# EAGLE library part TLC083 (library op-amp)
BiMOS OP-AMP Single Supply
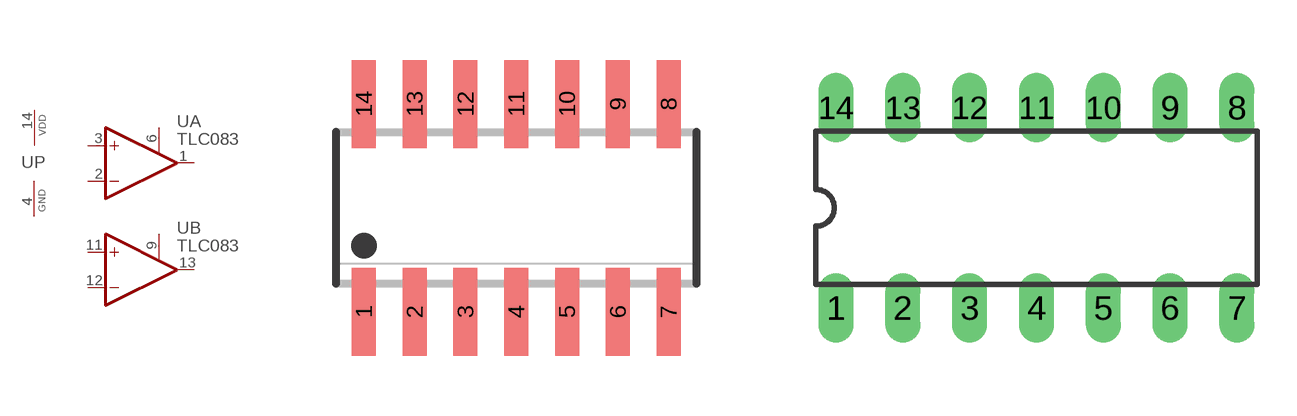
[diagram p13: symbol with the pads of SO14; footprints SO14, DIL14]

Designator prefix U; gates A=OPAMP_SHDN B=OPAMP_SHDN P=PWRN_VDDGND

## TLC083D  [SO14]
1  A:OUT  out
2  A:-IN  in
3  A:+IN  in
4  P:GND  pwr
6  A:SHDN  pas
9  B:SHDN  pas
11  B:+IN  in
12  B:-IN  in
13  B:OUT  out
14  P:VDD  pwr

## TLC083N  [DIL14]
Pads as for SO14

## Footprint SO14 (pad centres in mm)
SMALL OUTLINE INTEGRATED CIRCUIT body 3.9 mm/JEDEC MS-012AC
smd 0.6 x 2.2: 1 -3.81,-2.6; 2 -2.54,-2.6; 3 -1.27,-2.6; 4 0,-2.6; 5 1.27,-2.6; 6 2.54,-2.6; 7 3.81,-2.6; 8 3.81,2.6; 9 2.54,2.6; 10 1.27,2.6; 11 0,2.6; 12 -1.27,2.6; 13 -2.54,2.6; 14 -3.81,2.6

## Footprint DIL14 (pad centres in mm)
Dual In Line Package
drill 0.813 long: 1 -7.62,-3.81; 2 -5.08,-3.81; 3 -2.54,-3.81; 4 0,-3.81; 5 2.54,-3.81; 6 5.08,-3.81; 7 7.62,-3.81; 8 7.62,3.81; 9 5.08,3.81; 10 2.54,3.81; 11 0,3.81; 12 -2.54,3.81; 13 -5.08,3.81; 14 -7.62,3.81